# Altium footprint library NODEMCU——ESP8266_2024-03-101.PcbLib: 1 footprints
Each footprint in its own frame and in the unit in brackets; x right, y up, seen from the top. Pads: shape width x height; smd on the part's side, far side on the other; paste and mask are expansions set on the pad; w line width, h text height; cw(c..) or ccw(c..) is an arc to the next point about the centre after c.
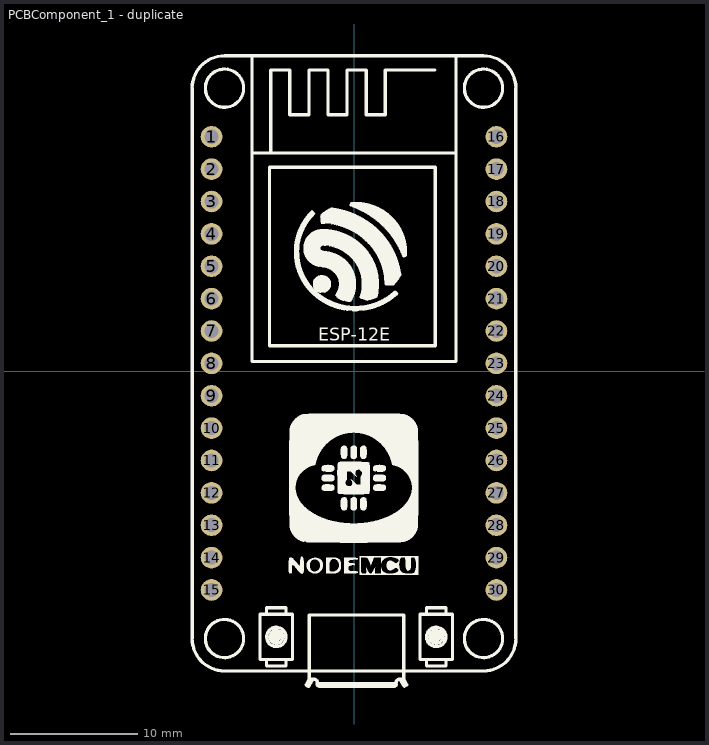
[diagram p0: the footprint, top view; thin cyan lines are the x and y axes]

## PCBComponent_1 - duplicate [mm]
pads (30):
  round 1.7 hole 1.1 paste+0 mask+0.102: 1(-11.176,18.385) 2(-11.176,15.845) 3(-11.176,13.305) 4(-11.176,10.765) 5(-11.176,8.225) 6(-11.176,5.685) 7(-11.176,3.145) 8(-11.176,0.605) 9(-11.176,-1.935) 10(-11.176,-4.475) 11(-11.176,-7.015) 12(-11.176,-9.555) 13(-11.176,-12.095) 14(-11.176,-14.635) 15(-11.176,-17.175) 16(11.176,18.385) 17(11.176,15.845) 18(11.176,13.305) 19(11.176,10.765) 20(11.176,8.225) 21(11.176,5.685) 22(11.176,3.145) 23(11.176,0.605) 24(11.176,-1.935) 25(11.176,-4.475) 26(11.176,-7.015) 27(11.176,-9.555) 28(11.176,-12.095) 29(11.176,-14.635) 30(11.176,-17.175)
Top Overlay:
  drawing of 123 lines, arcs and shapes, not listed
  text "ESP-12E" at -2.794,2.383 h1.02